# Altium footprint library slide switch L101011MS02Q.PcbLib: 1 footprints
Each footprint in its own frame and in the unit in brackets; x right, y up, seen from the top. Pads: shape width x height; smd on the part's side, far side on the other; paste and mask are expansions set on the pad; w line width, h text height; cw(c..) or ccw(c..) is an arc to the next point about the centre after c.
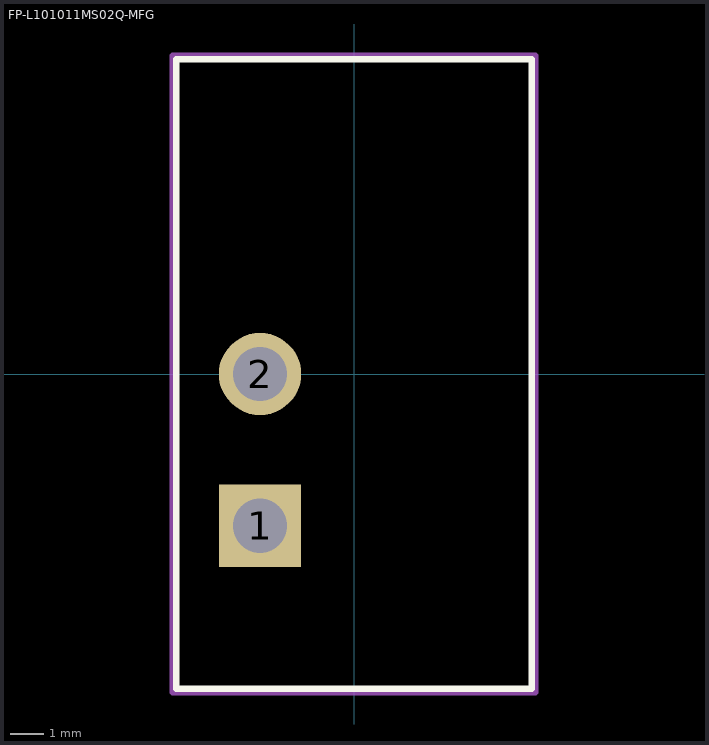
[diagram p0: the footprint, top view; thin cyan lines are the x and y axes]

## FP-L101011MS02Q-MFG [mm]
pads (2):
  rect 2.5x2.5 hole 1.65 paste-2539.97 mask+0: 1(-2.85,-4.6)
  round 2.5 hole 1.65 paste-2539.97 mask+0: 2(-2.85,0)
Top Overlay:
  lines w0.2: -5.395,-9.55 5.395,-9.55 5.395,9.55 -5.395,9.55 -5.395,-9.55
Mechanical 29:
  lines w0.2: -5.495,-9.65 -5.495,9.65 5.495,9.65 5.495,-9.65 -5.495,-9.65
  text ".Designator" at 1.293,-5.261 h2
3D body "Switch_C&K_Components_L101011MS02Q_eec.STEP": height 14.17, standoff -3.83, extent -5.397,-9.55 5.399,9.55